# Altium footprint library gedj.PcbLib: 28 footprints (part 2 of 2)
Each footprint in its own frame and in the unit in brackets; x right, y up, seen from the top. Pads: shape width x height; smd on the part's side, far side on the other; paste and mask are expansions set on the pad; w line width, h text height; cw(c..) or ccw(c..) is an arc to the next point about the centre after c.
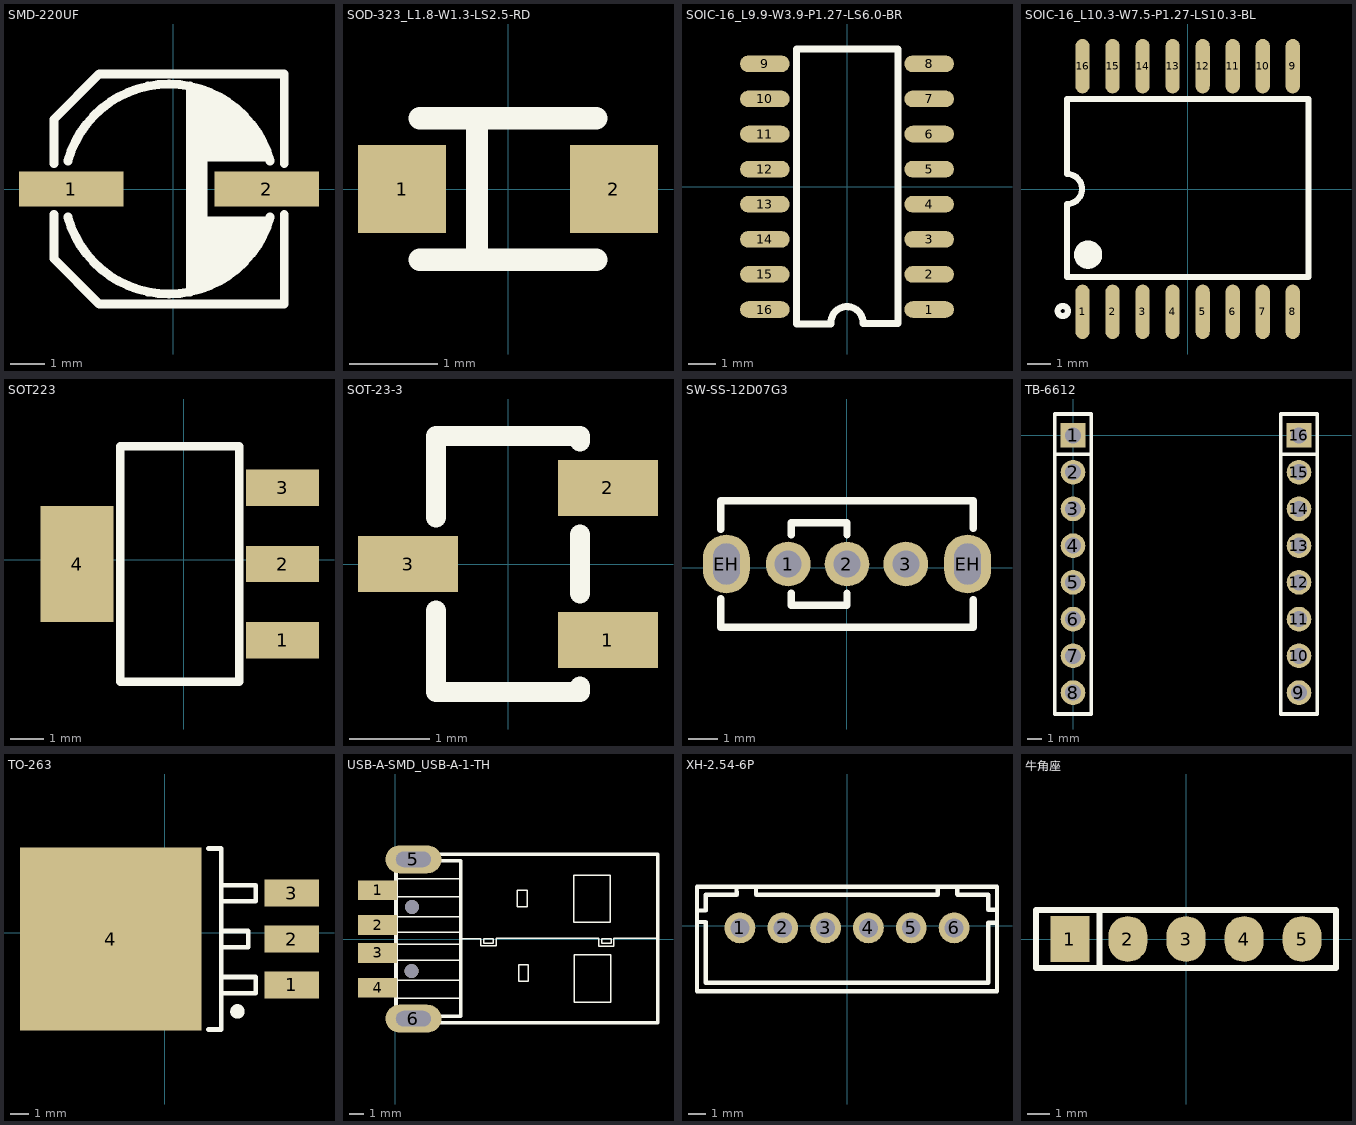
[diagram p1: the footprints below, top view; thin cyan lines are the x and y axes]

## SMD-220UF [mm]
pads (2):
  rect 3x1 smd: 1(-2.927,0) 2(2.673,0)
Top Overlay:
  region: 0.373,-3 0.373,2.9 0.973,2.8 1.473,2.6 1.773,2.3 2.073,2.1 2.373,1.8 2.573,1.4 2.773,0.8 0.973,0.8 0.973,-0.8 2.773,-0.8 2.673,-1 2.573,-1.4 2.273,-1.7 2.073,-2.1 1.673,-2.4 0.873,-2.8
  lines w0.254: -3.424,-0.732 -3.424,-1.999 -2.123,-3.299 3.175,-3.299 3.175,-0.732 ; -3.424,0.732 -3.424,1.999 -2.123,3.299 3.175,3.299 3.175,0.732 ; -3.027,-0.8 ccw(c-0.127,0) 2.773,-0.8 ; -3.027,0.8 cw(c-0.127,0) 2.773,0.8

## SOD-323_L1.8-W1.3-LS2.5-RD [mm]
pads (2):
  rect 1x1 smd: 1(-1.2,0) 2(1.2,0)
Top Overlay:
  lines w0.254: -1,-0.8 1,-0.8 ; -1,0.8 1,0.8 ; -0.351,-0.8 -0.351,0.8

## SOIC-16_L9.9-W3.9-P1.27-LS6.0-BR [mm]
pads (16):
  oval 1.798x0.6 smd: 1(2.972,-4.445) 2(2.972,-3.175) 3(2.972,-1.905) 4(2.972,-0.635) 5(2.972,0.635) 6(2.972,1.905) 7(2.972,3.175) 8(2.972,4.445) 9(-2.972,4.445) 10(-2.972,3.175) 11(-2.972,1.905) 12(-2.972,0.635) 13(-2.972,-0.635) 14(-2.972,-1.905) 15(-2.972,-3.175) 16(-2.972,-4.445)
Top Overlay:
  lines w0.254: -0.584,-4.976 -1.829,-4.976 -1.829,4.976 1.854,4.976 1.854,-4.928 ; -0.584,-4.95 cw(c0,-4.928) 0.584,-4.953 1.854,-4.953

## SOIC-16_L10.3-W7.5-P1.27-LS10.3-BL [mm]
pads (16):
  oval 0.6x2.298 smd: 1(-4.445,-5.194) 2(-3.175,-5.194) 3(-1.905,-5.194) 4(-0.635,-5.194) 5(0.635,-5.194) 6(1.905,-5.194) 7(3.175,-5.194) 8(4.445,-5.194) 9(4.445,5.194) 10(3.175,5.194) 11(1.905,5.194) 12(0.635,5.194) 13(-0.635,5.194) 14(-1.905,5.194) 15(-3.175,5.194) 16(-4.445,5.194)
Top Overlay:
  circle w0.254: c-5.28,-5.16 r0.215
  lines w0.254: -5.1,-3.721 5.1,-3.721 5.1,3.797 -5.1,3.797 -5.1,0.635 cw(c-5.1,0) -5.1,-0.635 -5.1,-3.721
  lines w0.6: -4.216,-2.477 ccw(c-4.214,-2.776) -4.211,-2.477

## SOT223 [mm]
pads (4):
  rect 2.2x1.1 smd: 1(2.972,-2.427) 2(2.972,-0.127) 3(2.972,2.173)
  rect 2.2x3.5 smd: 4(-3.226,-0.127)
Top Overlay:
  lines w0.254: -1.927,-3.677 -1.927,3.423 1.673,3.423 1.673,-3.677 -1.927,-3.677

## SOT-23-3 [mm]
pads (3):
  rect 1.25x0.7 smd: 1(1.25,-0.95) 2(1.25,0.95) 3(-1.25,0)
Top Overlay:
  lines w0.254: -0.9,-0.581 -0.9,-1.6 0.9,-1.6 0.9,-1.531 ; -0.9,0.581 -0.9,1.6 0.9,1.6 0.9,1.531 ; 0.9,-0.369 0.9,0.369

## SW-SS-12D07G3 [mil]
pads (5):
  round 60 hole 36: 1(-78.74,5) 2(0,5) 3(78.74,5)
  oval 62.99x78.74 hole 35.43 slot 55.12 at 90 deg: EH(-161.42,5) EH(161.42,5)
Top Overlay:
  lines w10: -169.29,-41.71 -169.29,-79.65 169.29,-79.64 169.29,-42.7 ; -169.29,51.71 -169.29,89.65 169.29,89.65 169.29,52.7 ; -74.8,-33.9 -74.8,-50.12 0,-50.12 0,-34.1 ; -74.8,43.9 -74.8,60.12 0,60.12 0,44.1

## TB-6612 [mm]
pads (16):
  rect 1.7x1.7 hole 1.1: 1(0,0) 16(15.621,0)
  round 1.7 hole 1.1: 2(0,-2.54) 3(0,-5.08) 4(0,-7.62) 5(0,-10.16) 6(0,-12.7) 7(0,-15.24) 8(0,-17.78) 9(15.621,-17.78) 10(15.621,-15.24) 11(15.621,-12.7) 12(15.621,-10.16) 13(15.621,-7.62) 14(15.621,-5.08) 15(15.621,-2.54)
Top Overlay:
  lines w0.254: -1.27,-1.294 1.27,-1.294 ; 14.351,-1.294 16.891,-1.294 ; -1.27,-19.26 1.27,-19.26 1.27,1.48 -1.27,1.48 -1.27,-19.26 ; 14.351,-19.26 14.351,1.48 16.891,1.48 16.891,-19.26 14.351,-19.26

## TO-263 [mil]
pads (4):
  rect 118.5x59.5 smd: 1(276.25,-113.1) 2(276.25,-13.1) 3(276.25,86.9)
  rect 394.5x398.5 smd: 4(-117.75,-13.1)
Top Overlay:
  lines w10: 95.15,-210 122.75,-210 122.75,183.8 95.15,183.8 ; 122.75,-131.2 197.55,-131.2 197.55,-95.8 122.75,-95.8 ; 122.75,-31.2 181.75,-31.2 181.75,4.2 122.75,4.2 ; 122.75,68.8 197.55,68.8 197.55,104.2 122.75,104.2
  lines w15.7: 158.05,-178.5 cw(c158.1,-170.6) 158.15,-178.5
Mechanical 15:
  lines w0.1: 9.25,5.2 11.25,7.2

## USB-A-SMD_USB-A-1-TH [mm]
pads (8):
  rect 2.8x1.4 smd: 1(-1.283,3.5) 2(-1.283,1) 3(-1.283,-1) 4(-1.283,-3.5)
  oval 4x2 hole 1.1 slot 2.5 at 0 deg: 5(1.283,5.7) 6(1.283,-5.7)
  round 1 hole 1 unplated: ""(1.156,-2.3) ""(1.181,2.299)
Top Overlay:
  lines w0.1: 0.038,-4.254 4.61,-4.254 ; 0.038,-2.959 4.61,-2.959 ; 0.038,-1.536 4.61,-1.536 ; 0.064,-0.393 4.661,-0.393 ; 0.089,0.47 4.661,0.47 ; 0.089,1.588 4.661,1.588 ; 0.089,3.01 4.661,3.01 ; 0.089,4.306 4.661,4.306
  lines w0.102: 4.661,0.013 6.083,0.013 6.083,-0.495 7.226,-0.495 7.226,0.038 ; 7.201,0.038 14.541,0.038 14.541,-0.495 14.541,-0.52 14.567,-0.52 15.634,-0.52 15.634,0.064 18.732,0.064 18.783,0.115 ; 6.312,-0.317 6.312,0.013 6.363,0.013 6.998,0.013 6.998,-0.317 6.312,-0.317 ; 8.725,2.299 8.725,3.493 9.411,3.493 9.411,2.35 9.411,2.299 9.36,2.299 8.725,2.299 ; 8.826,-3.035 8.826,-1.841 9.512,-1.841 9.512,-2.984 9.512,-3.035 9.461,-3.035 8.826,-3.035 ; 12.738,1.181 15.354,1.181 15.354,4.56 12.738,4.56 12.738,1.181 ; 12.789,-4.508 15.405,-4.508 15.405,-1.13 12.789,-1.13 12.789,-4.508 ; 14.745,-0.317 14.745,0.013 14.795,0.013 15.43,0.013 15.43,-0.317 14.745,-0.317
  lines w0.254: 0.064,5.601 4.661,5.601 4.661,-5.524 0.038,-5.524 0.038,5.601 0.114,5.601 ; 2.375,6.058 18.758,6.058 ; 2.4,-5.981 18.758,-5.981 ; 18.758,-5.967 18.758,6.033

## XH-2.54-6P [mm]
pads (6):
  round 1.8 hole 1.1: 1(-6.25,-0.127) 2(-3.75,-0.127) 3(-1.25,-0.127) 4(1.25,-0.127) 5(3.75,-0.127) 6(6.25,-0.127)
Top Overlay:
  lines w0.254: -8.75,0.213 -8.25,0.213 -8.25,-2.576 -8.25,-3.325 8.25,-3.325 8.25,0.173 8.75,0.173 ; -8.75,1.102 -8.75,0.884 -8.25,0.884 -8.25,1.102 -8.25,1.801 -6.431,1.801 -6.444,2.25 ; -5.31,1.823 -5.31,2.273 ; -5.3,1.8 5.3,1.8 ; 5.29,1.823 5.29,2.273 ; 6.433,1.824 6.433,2.273 ; 6.444,1.801 8.25,1.801 8.25,0.922 8.75,0.922 ; -8.75,-3.827 8.75,-3.827 8.75,2.273 -8.75,2.273 -8.75,-3.827

## 牛角座 [mm]
pads (5):
  rect 1.7x2 smd: 1(-5.08,0)
  oval 1.7x2 smd: 2(-2.54,0) 3(0,0) 4(2.54,0) 5(5.08,0)
Top Overlay:
  lines w0.254: -3.786,-1.27 -3.786,1.27 ; -6.56,-1.27 6.56,-1.27 6.56,1.27 -6.56,1.27 -6.56,-1.27